# Altium integrated library USSTParts.IntLib: 12 symbols
Pins are listed as number, name and electrical type; pins without a type are passive.

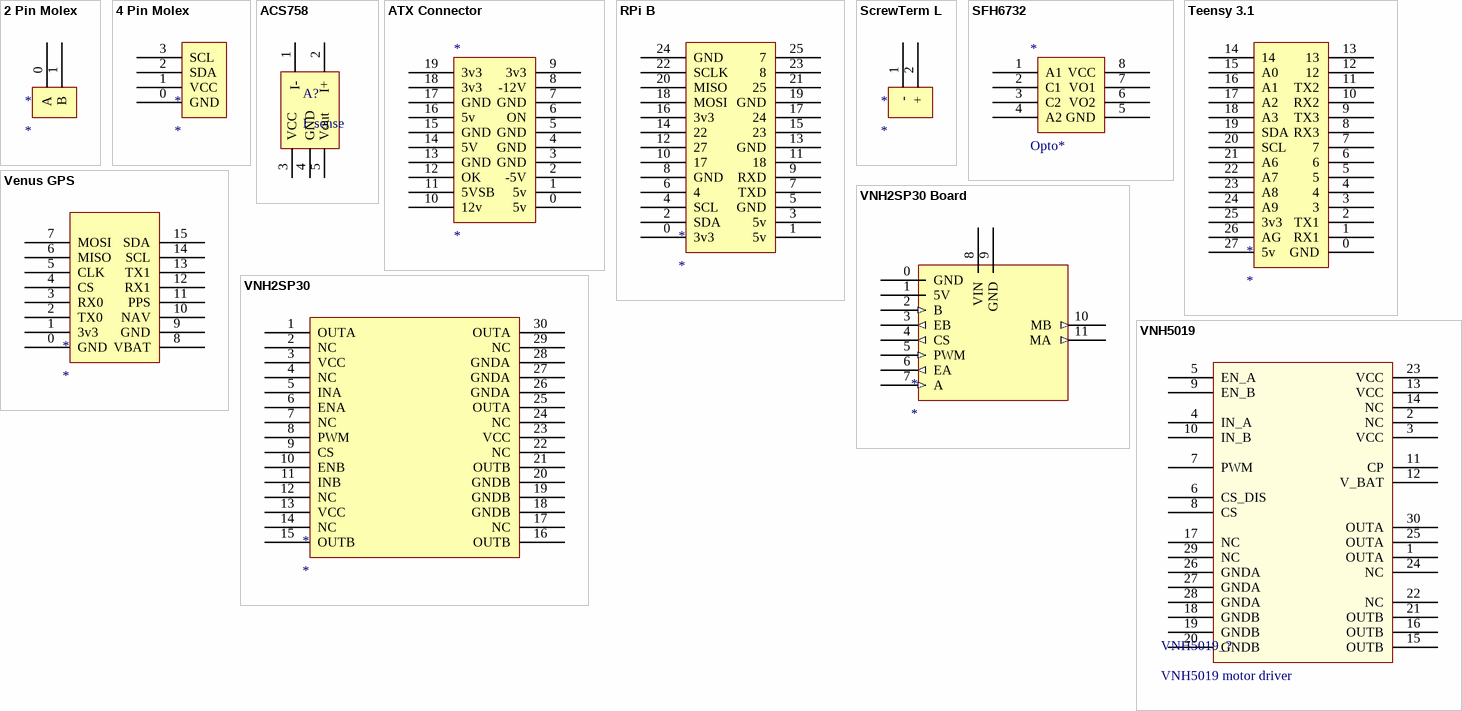
[diagram p0: symbols 2 Pin Molex to VNH5019]

## 2 Pin Molex
designator *
footprint Molex 2 Pin
pins: 0 A, 1 B

## 4 Pin Molex
designator *
footprint MOLEX 4 PIN
pins: 0 GND, 1 VCC, 2 SDA, 3 SCL

## ACS758
designator A?, comment I_sense
Current Sensor
footprint ACS758
pins: 1 I-, 2 I+, 3 VCC, 4 GND, 5 Vout

## ATX Connector
designator *
PC PSU Connector
footprint ATX
pins: 0 5v, 1 5v, 2 -5V, 3 GND, 4 GND, 5 GND, 6 ON, 7 GND, 8 -12V, 9 3v3, 10 12v, 11 5VSB, 12 OK, 13 GND, 14 5V, 15 GND, 16 5v, 17 GND, 18 3v3, 19 3v3

## RPi B
designator *
Raspberry Pi 1 Model B
footprint RPi1 B
pins: 0 3v3, 1 5v, 2 SDA, 3 5v, 4 SCL, 5 GND, 6 4, 7 TXD, 8 GND, 9 RXD, 10 17, 11 18, 12 27, 13 GND, 14 22, 15 23, 16 3v3, 17 24, 18 MOSI, 19 GND, 20 MISO, 21 25, 22 SCLK, 23 8, 24 GND, 25 7

## ScrewTerm L
designator *
Large Power Terminal
footprint Big Terminal
pins: 1 -, 2 +

## SFH6732
designator *, comment Opto*
Optoisolator
footprint DIP-8 (DIP, 8-Pin, Row Spacing 7.62 mm, Pitch 2.54 mm)
pins: 1 A1, 2 C1, 3 C2, 4 A2, 5 GND, 6 VO2, 7 VO1, 8 VCC

## Teensy 3.1
designator *
footprint TEENSY 3.1
pins: 0 GND, 1 RX1, 2 TX1, 3, 4, 5, 6, 7, 8 RX3, 9 TX3, 10 RX2, 11 TX2, 12, 13, 14, 15 A0, 16 A1, 17 A2, 18 A3, 19 SDA, 20 SCL, 21 A6, 22 A7, 23 A8, 24 A9, 25 3v3, 26 AG, 27 5v

## Venus GPS
designator *
footprint VENUS GPS
pins: 0 GND, 1 3v3, 2 TX0, 3 RX0, 4 CS, 5 CLK, 6 MISO, 7 MOSI, 8 VBAT, 9 GND, 10 NAV, 11 PPS, 12 RX1, 13 TX1, 14 SCL, 15 SDA

## VNH2SP30
designator *
Motor Driver
footprint VNH5019 (MultiPowerSO-30)
pins: 1 OUTA, 2 NC, 3 VCC, 4 NC, 5 INA, 6 ENA, 7 NC, 8 PWM, 9 CS, 10 ENB, 11 INB, 12 NC, 13 VCC, 14 NC, 15 OUTB, 16 OUTB, 17 NC, 18 GNDB, 19 GNDB, 20 GNDB, 21 OUTB, 22 NC, 23 VCC, 24 NC, 25 OUTA, 26 GNDA, 27 GNDA, 28 GNDA, 29 NC, 30 OUTA

## VNH2SP30 Board
designator *
Motor Driver Breakout
footprint VNH2SP30 Board (Motor Controller, H-Bridge, USST)
pins: 0 GND (power), 1 5V (power), 2 B (in), 3 EB (out), 4 CS (out), 5 PWM (in), 6 EA (out), 7 A (in), 8 VIN (power), 9 GND (power), 10 MB (out), 11 MA (out)

## VNH5019
designator VNH5019_?, comment VNH5019 motor driver
Motor driver
footprint VNH5019 (MultiPowerSO-30)
pins: 1 OUTA, 2 NC, 3 VCC, 4 IN_A, 5 EN_A, 6 CS_DIS, 7 PWM, 8 CS, 9 EN_B, 10 IN_B, 11 CP, 12 V_BAT, 13 VCC, 14 NC, 15 OUTB, 16 OUTB, 17 NC, 18 GNDB, 19 GNDB, 20 GNDB, 21 OUTB, 22 NC, 23 VCC, 24 NC, 25 OUTA, 26 GNDA, 27 GNDA, 28 GNDA, 29 NC, 30 OUTA